# Altium footprint library 2017_elec主板.PcbLib: 32 footprints (part 1 of 2)
Each footprint in its own frame and in the unit in brackets; x right, y up, seen from the top. Pads: shape width x height; smd on the part's side, far side on the other; paste and mask are expansions set on the pad; w line width, h text height; cw(c..) or ccw(c..) is an arc to the next point about the centre after c.
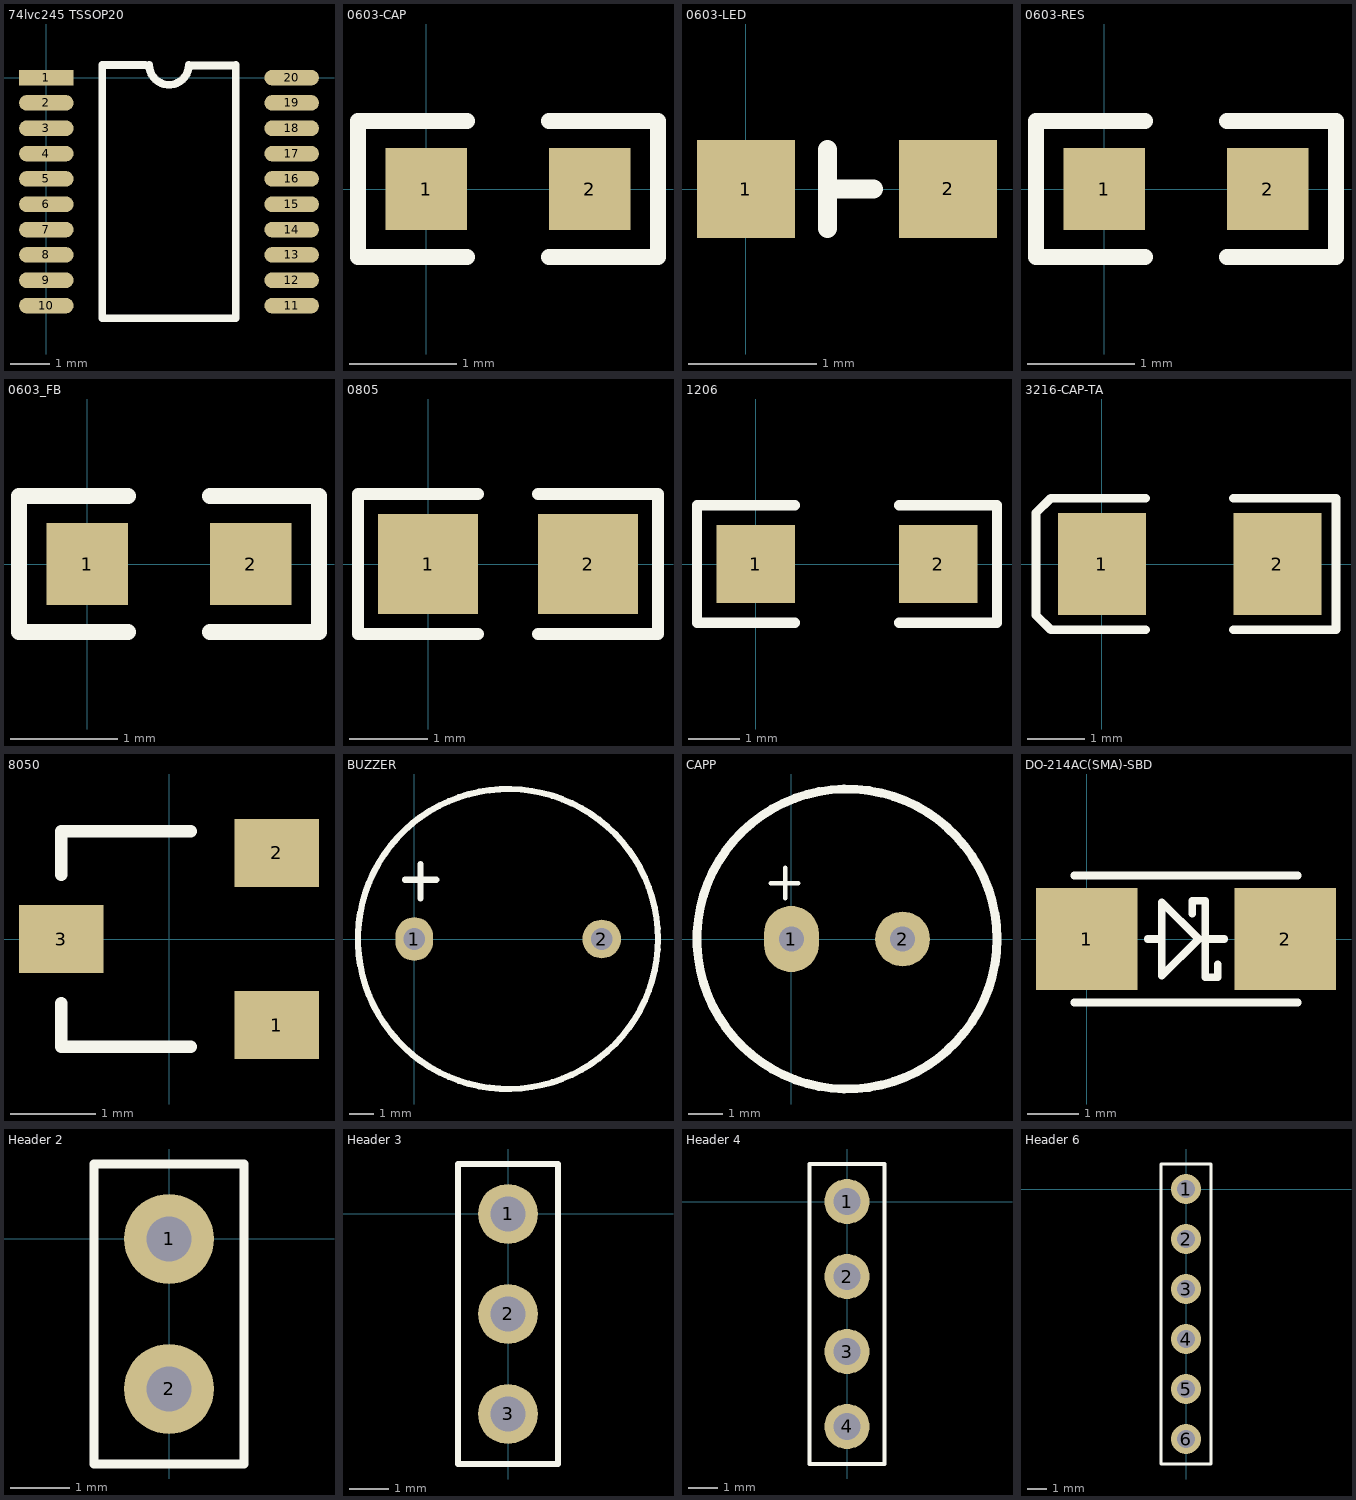
[diagram p0: the footprints below, top view; thin cyan lines are the x and y axes]

## 74lvc245 TSSOP20 [mm]
pads (20):
  rect 1.4x0.4 smd: 1(0,0)
  oval 1.4x0.4 smd: 2(0,-0.65) 3(0,-1.3) 4(0,-1.95) 5(0,-2.6) 6(0,-3.25) 7(0,-3.9) 8(0,-4.55) 9(0,-5.2) 10(0,-5.85) 11(6.3,-5.85) 12(6.3,-5.2) 13(6.3,-4.55) 14(6.3,-3.9) 15(6.3,-3.25) 16(6.3,-2.6) 17(6.3,-1.95) 18(6.3,-1.3) 19(6.3,-0.65) 20(6.3,0)
Top Overlay:
  lines w0.2: 2.54,0.325 1.435,0.325 1.435,-6.175 4.865,-6.175 4.865,0.325 ; 2.642,0.325 ccw(c3.15,0.325) 3.658,0.325 ; 3.683,0.31 4.788,0.31

## 0603-CAP [mil]
pads (2):
  rect 30x30 smd: 1(0,0) 2(60,0)
Top Overlay:
  lines w5.91: 15,-25 -25,-25 -25,25 15,25 ; 45,-25 84,-25 ; 45,25 85,25 85,-25
3D body: height 23.62, standoff 0, extent -1.49,-15.74 61.5,15.75

## 0603-LED [mil]
pads (2):
  rect 30x30 smd: 1(0,0) 2(61.9,0)
Top Overlay:
  lines w5.91: 25,-12 25,12 ; 25,0 39,0
3D body: height 23.62, standoff 0, extent -1.88,-15.74 61.9,15.75

## 0603-RES [mil]
pads (2):
  rect 30x30 smd: 1(0,0) 2(60,0)
Top Overlay:
  lines w5.91: -25,25 -25,-25 15,-25 ; -24,25 15,25 ; 45,-25 85,-25 85,25 45,25
3D body: height 17.72, standoff 0, extent -1.49,-15.74 61.5,15.75

## 0603_FB [mil]
pads (2):
  rect 30x30 smd: 1(0,0) 2(60,0)
Top Overlay:
  lines w5.91: -25,25 -25,-25 15,-25 ; -24,25 15,25 ; 45,-25 85,-25 85,25 45,25
3D body: height 17.72, standoff 0, extent -1.49,-15.74 61.5,15.75

## 0805 [mil]
pads (2):
  rect 50x50 smd: 1(0,0) 2(80,0)
Top Overlay:
  lines w5.91: 25,-35 -35,-35 -35,35 25,35 ; 55,-35 115,-35 115,35 55,35
3D body: height 21.65, standoff 0, extent 0.63,-25 79.37,24.61

## 1206 [mil]
pads (2):
  rect 60x60 smd: 1(0,0) 2(140,0)
Top Overlay:
  lines w7.87: 30,-45 -45,-45 -45,45 30,45 ; 110,-45 185,-45 185,45 110,45
3D body: height 39.37, standoff 0, extent -5,-35 15,35
3D body: height 39.37, standoff 0, extent 125,-35 145,35
3D body: height 39.37, standoff 0, extent 15,-35 125,35

## 3216-CAP-TA [mil]
pads (2):
  rect 60x70 smd: 1(0,0) 2(120,0)
Top Overlay:
  lines w5.91: 30,-45 -35,-45 -45,-35 -45,35 -35,45 30,45 ; 90,-45 160,-45 160,45 90,45
3D body: height 62.99, standoff 0, extent -2.99,-31.49 123,31.5

## 8050 [mm]
pads (3):
  rect 1x0.8 smd: 1(1.27,-1.016) 2(1.27,1.016) 3(-1.27,0)
Top Overlay:
  lines w0.15: -1.27,-0.762 -1.27,-1.27 0.254,-1.27 ; -1.27,0.762 -1.27,1.27 0.254,1.27
3D body: height 1.08, standoff 0, extent -1.312,-1.5 1.328,1.5

## BUZZER [mil]
pads (2):
  oval 60x70 hole 35: 1(0,0)
  round 62 hole 35: 2(300,0)
Top Overlay:
  circle w10: c150,0 r240
  lines w10: -15,95 35,95 ; 10,65 10,120

## CAPP [mil]
pads (2):
  oval 62x75 hole 28: 1(0,0)
  round 62 hole 28: 2(126,0)
Top Overlay:
  circle w10: c63,0 r170
  lines w5: -23.62,62.99 7.87,62.99 ; -6.89,46.26 -6.89,80.71

## DO-214AC(SMA)-SBD [mm]
pads (2):
  rect 2x2 smd: 1(0,0) 2(3.9,0)
Top Overlay:
  lines w0.15: -0.25,-1.25 4.15,-1.25 ; -0.25,1.25 4.15,1.25 ; 1.2,0 1.475,0 ; 2.075,0.5 2.075,0.75 2.325,0.75 2.325,-0.75 2.575,-0.75 2.575,-0.5 ; 2.325,0 2.7,0 ; 1.475,-0.725 1.475,0.725 2.2,0 1.475,-0.725
3D body: height 2.4, standoff 0, extent -0.375,-1.35 4.225,1.35

## Header 2 [mil]
pads (2):
  round 60 hole 30: 1(0,0) 2(0,-100)
Top Overlay:
  lines w5.91: -50,-150 -50,50 50,50 50,-150 -50,-150
3D body: height 336.22, standoff -118.11, extent -50,-150 50,50

## Header 3 [mil]
pads (3):
  round 60 hole 35.43: 1(0,0) 2(0,-100) 3(0,-200)
Top Overlay:
  lines w5.91: -50,-250 50,-250 50,50 -50,50 -50,-250
3D body: height 336.22, standoff -118.11, extent -50,-250 50,50

## Header 4 [mil]
pads (4):
  round 60 hole 35.43: 1(0,0) 2(0,-100) 3(0,-200) 4(0,-300)
Top Overlay:
  lines w5.91: -50,-350 50,-350 50,50 -50,50 -50,-350
3D body: height 336.22, standoff -118.11, extent -50,-350 50,50

## Header 6 [mil]
pads (6):
  round 60 hole 35.43: 1(0,0) 2(0,-100) 3(0,-200) 4(0,-300) 5(0,-400) 6(0,-500)
Top Overlay:
  lines w5.91: -50,-550 50,-550 50,50 -50,50 -50,-550
3D body: height 336.22, standoff -118.11, extent -50,-550 50,50